# EAGLE library part PIC18F4680 (library pic18f4680)
40-Pin High Performance, Enhanced FLASH Microcontrollers with CAN device program memory (bytes) data RAM (bytes) PIC18F448 16K 768 PIC18F458 32K 1536
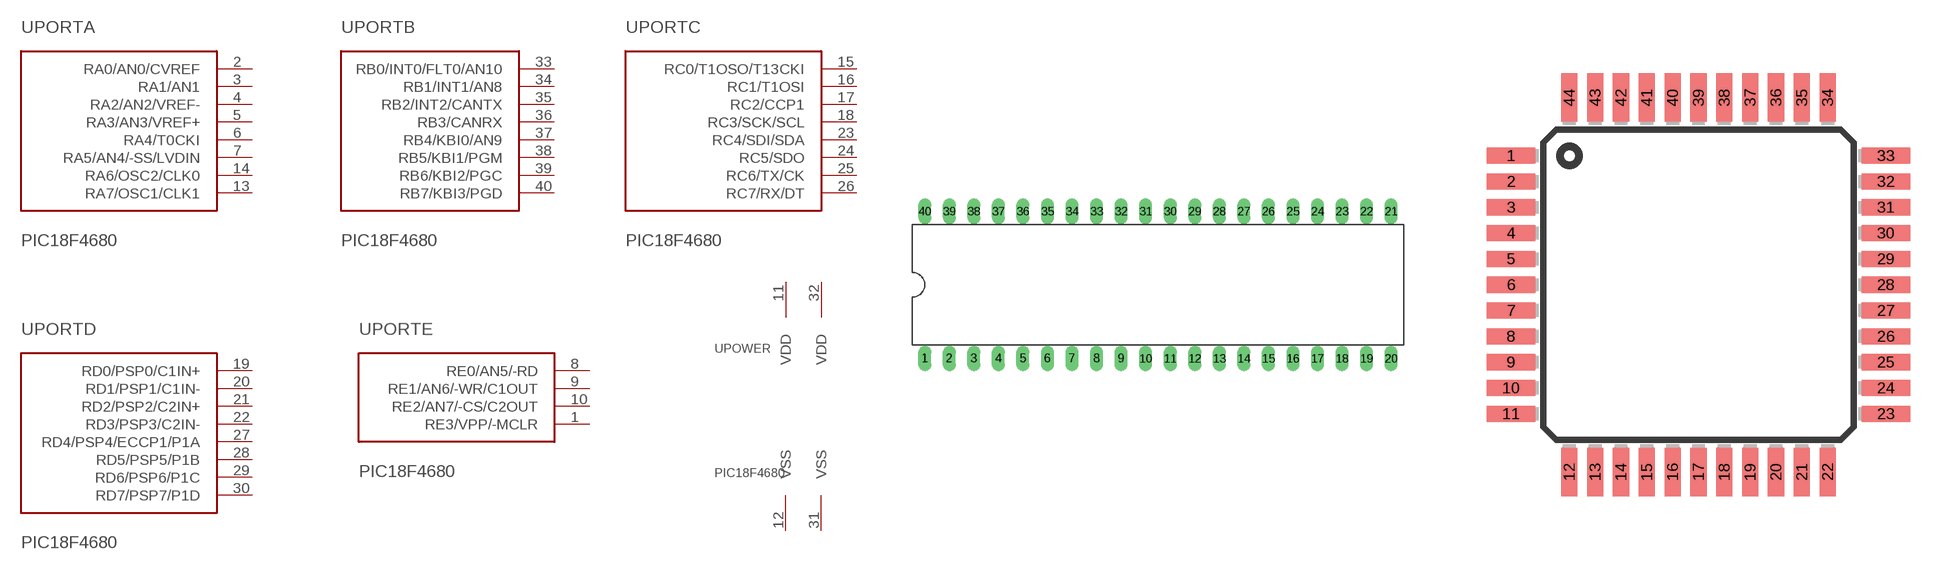
[diagram p0: symbol with the pads of DIL40; footprints DIL40, TQFP44]

Designator prefix -; gates PORTA=PIC18F4680-PORTA PORTB=PIC18F4680-PORTB PORTC=PIC18F4680-PORTC PORTD=PIC18F4680-PORTD PORTE=PIC18F4680-PORTE POWER=PIC18F4680-POWER

## PIC18F46804-E/P, PIC18F46805-E/P  [DIL40]
1  PORTE:RE3/VPP/-MCLR
2  PORTA:RA0/AN0/CVREF
3  PORTA:RA1/AN1
4  PORTA:RA2/AN2/VREF-
5  PORTA:RA3/AN3/VREF+
6  PORTA:RA4/T0CKI
7  PORTA:RA5/AN4/-SS/LVDIN
8  PORTE:RE0/AN5/-RD
9  PORTE:RE1/AN6/-WR/C1OUT
10  PORTE:RE2/AN7/-CS/C2OUT
11  POWER:VDD  pwr
12  POWER:VSS  pwr
13  PORTA:RA7/OSC1/CLK1
14  PORTA:RA6/OSC2/CLK0
15  PORTC:RC0/T1OSO/T13CKI
16  PORTC:RC1/T1OSI
17  PORTC:RC2/CCP1
18  PORTC:RC3/SCK/SCL
19  PORTD:RD0/PSP0/C1IN+
20  PORTD:RD1/PSP1/C1IN-
21  PORTD:RD2/PSP2/C2IN+
22  PORTD:RD3/PSP3/C2IN-
23  PORTC:RC4/SDI/SDA
24  PORTC:RC5/SDO
25  PORTC:RC6/TX/CK
26  PORTC:RC7/RX/DT
27  PORTD:RD4/PSP4/ECCP1/P1A
28  PORTD:RD5/PSP5/P1B
29  PORTD:RD6/PSP6/P1C
30  PORTD:RD7/PSP7/P1D
31  POWER:VSS  pwr
32  POWER:VDD  pwr
33  PORTB:RB0/INT0/FLT0/AN10
34  PORTB:RB1/INT1/AN8
35  PORTB:RB2/INT2/CANTX
36  PORTB:RB3/CANRX
37  PORTB:RB4/KBI0/AN9
38  PORTB:RB5/KBI1/PGM
39  PORTB:RB6/KBI2/PGC
40  PORTB:RB7/KBI3/PGD

## PIC18F46804-E/PT, PIC18F46805-E/PT  [TQFP44]
1  PORTC:RC7/RX/DT
2  PORTD:RD4/PSP4/ECCP1/P1A
3  PORTD:RD5/PSP5/P1B
4  PORTD:RD6/PSP6/P1C
5  PORTD:RD7/PSP7/P1D
6  POWER:VSS  pwr
7  POWER:VDD  pwr
8  PORTB:RB0/INT0/FLT0/AN10
9  PORTB:RB1/INT1/AN8
10  PORTB:RB2/INT2/CANTX
11  PORTB:RB3/CANRX
14  PORTB:RB4/KBI0/AN9
15  PORTB:RB5/KBI1/PGM
16  PORTB:RB6/KBI2/PGC
17  PORTB:RB7/KBI3/PGD
18  PORTE:RE3/VPP/-MCLR
19  PORTA:RA0/AN0/CVREF
20  PORTA:RA1/AN1
21  PORTA:RA2/AN2/VREF-
22  PORTA:RA3/AN3/VREF+
23  PORTA:RA4/T0CKI
24  PORTA:RA5/AN4/-SS/LVDIN
25  PORTE:RE0/AN5/-RD
26  PORTE:RE1/AN6/-WR/C1OUT
27  PORTE:RE2/AN7/-CS/C2OUT
28  POWER:VDD  pwr
29  POWER:VSS  pwr
30  PORTA:RA7/OSC1/CLK1
31  PORTA:RA6/OSC2/CLK0
32  PORTC:RC0/T1OSO/T13CKI
35  PORTC:RC1/T1OSI
36  PORTC:RC2/CCP1
37  PORTC:RC3/SCK/SCL
38  PORTD:RD0/PSP0/C1IN+
39  PORTD:RD1/PSP1/C1IN-
40  PORTD:RD2/PSP2/C2IN+
41  PORTD:RD3/PSP3/C2IN-
42  PORTC:RC4/SDI/SDA
43  PORTC:RC5/SDO
44  PORTC:RC6/TX/CK

## Footprint DIL40 (pad centres in mm)
Dual In Line package type P
drill 0.813 long: 1 -24.13,-7.62; 2 -21.59,-7.62; 3 -19.05,-7.62; 4 -16.51,-7.62; 5 -13.97,-7.62; 6 -11.43,-7.62; 7 -8.89,-7.62; 8 -6.35,-7.62; 9 -3.81,-7.62; 10 -1.27,-7.62; 11 1.27,-7.62; 12 3.81,-7.62; 13 6.35,-7.62; 14 8.89,-7.62; 15 11.43,-7.62; 16 13.97,-7.62; 17 16.51,-7.62; 18 19.05,-7.62; 19 21.59,-7.62; 20 24.13,-7.62; 21 24.13,7.62; 22 21.59,7.62; 23 19.05,7.62; 24 16.51,7.62; 25 13.97,7.62; 26 11.43,7.62; 27 8.89,7.62; 28 6.35,7.62; 29 3.81,7.62; 30 1.27,7.62; 31 -1.27,7.62; 32 -3.81,7.62; 33 -6.35,7.62; 34 -8.89,7.62; 35 -11.43,7.62; 36 -13.97,7.62; 37 -16.51,7.62; 38 -19.05,7.62; 39 -21.59,7.62; 40 -24.13,7.62

## Footprint TQFP44 (pad centres in mm)
Thin Quad Flat Pack package type TQ
smd 1.5 x 0.5: 1 -5.8,4; 2 -5.8,3.2; 3 -5.8,2.4; 4 -5.8,1.6; 5 -5.8,0.8; 6 -5.8,0; 7 -5.8,-0.8; 8 -5.8,-1.6; 9 -5.8,-2.4; 10 -5.8,-3.2; 11 -5.8,-4; 23 5.8,-4; 24 5.8,-3.2; 25 5.8,-2.4; 26 5.8,-1.6; 27 5.8,-0.8; 28 5.8,0; 29 5.8,0.8; 30 5.8,1.6; 31 5.8,2.4; 32 5.8,3.2; 33 5.8,4
smd 0.5 x 1.5: 12 -4,-5.8; 13 -3.2,-5.8; 14 -2.4,-5.8; 15 -1.6,-5.8; 16 -0.8,-5.8; 17 0,-5.8; 18 0.8,-5.8; 19 1.6,-5.8; 20 2.4,-5.8; 21 3.2,-5.8; 22 4,-5.8; 34 4,5.8; 35 3.2,5.8; 36 2.4,5.8; 37 1.6,5.8; 38 0.8,5.8; 39 0,5.8; 40 -0.8,5.8; 41 -1.6,5.8; 42 -2.4,5.8; 43 -3.2,5.8; 44 -4,5.8